# EAGLE library part AY-3-8912 (library shock_own)
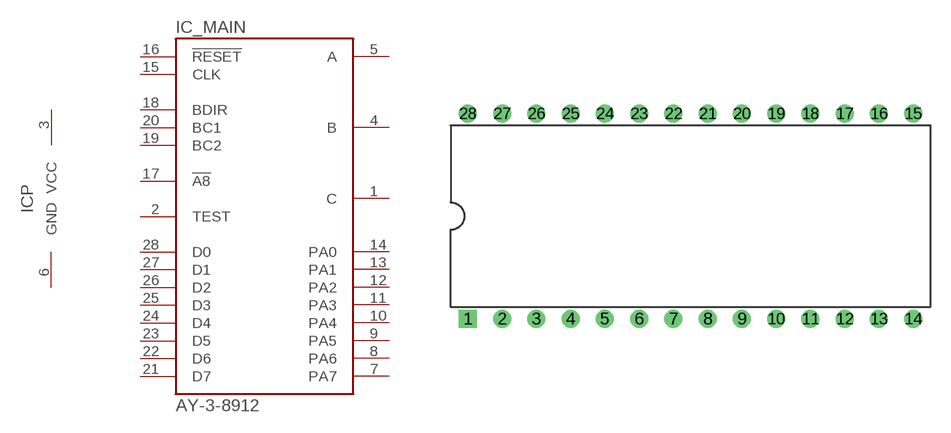
[diagram p0: symbol with the pads of DIP28; footprint DIP28]

Designator prefix IC; gates _MAIN=AY-3-8912 P=PWRGND

## AY-3-8912  [DIP28]
1  _MAIN:C  out
2  _MAIN:TEST  in
3  P:VCC  pwr
4  _MAIN:B  out
5  _MAIN:A  out
6  P:GND  pwr
7  _MAIN:PA7
8  _MAIN:PA6
9  _MAIN:PA5
10  _MAIN:PA4
11  _MAIN:PA3
12  _MAIN:PA2
13  _MAIN:PA1
14  _MAIN:PA0
15  _MAIN:CLK  in
16  _MAIN:!RESET  in
17  _MAIN:!A8  in
18  _MAIN:BDIR  in
19  _MAIN:BC2  in
20  _MAIN:BC1  in
21  _MAIN:D7
22  _MAIN:D6
23  _MAIN:D5
24  _MAIN:D4
25  _MAIN:D3
26  _MAIN:D2
27  _MAIN:D1
28  _MAIN:D0

## Footprint DIP28 (pad centres in mm)
drill 0.813 square: 1 -15.24,-7.62
drill 0.813: 2 -12.7,-7.62; 3 -10.16,-7.62; 4 -7.62,-7.62; 5 -5.08,-7.62; 6 -2.54,-7.62; 7 0,-7.62; 8 2.54,-7.62; 9 5.08,-7.62; 10 7.62,-7.62; 11 10.16,-7.62; 12 12.7,-7.62; 13 15.24,-7.62; 14 17.78,-7.62; 15 17.78,7.62; 16 15.24,7.62; 17 12.7,7.62; 18 10.16,7.62; 19 7.62,7.62; 20 5.08,7.62; 21 2.54,7.62; 22 0,7.62; 23 -2.54,7.62; 24 -5.08,7.62; 25 -7.62,7.62; 26 -10.16,7.62; 27 -12.7,7.62; 28 -15.24,7.62